# Altium footprint library PcbLib1.PcbLib: 6 footprints
Each footprint in its own frame and in the unit in brackets; x right, y up, seen from the top. Pads: shape width x height; smd on the part's side, far side on the other; paste and mask are expansions set on the pad; w line width, h text height; cw(c..) or ccw(c..) is an arc to the next point about the centre after c.
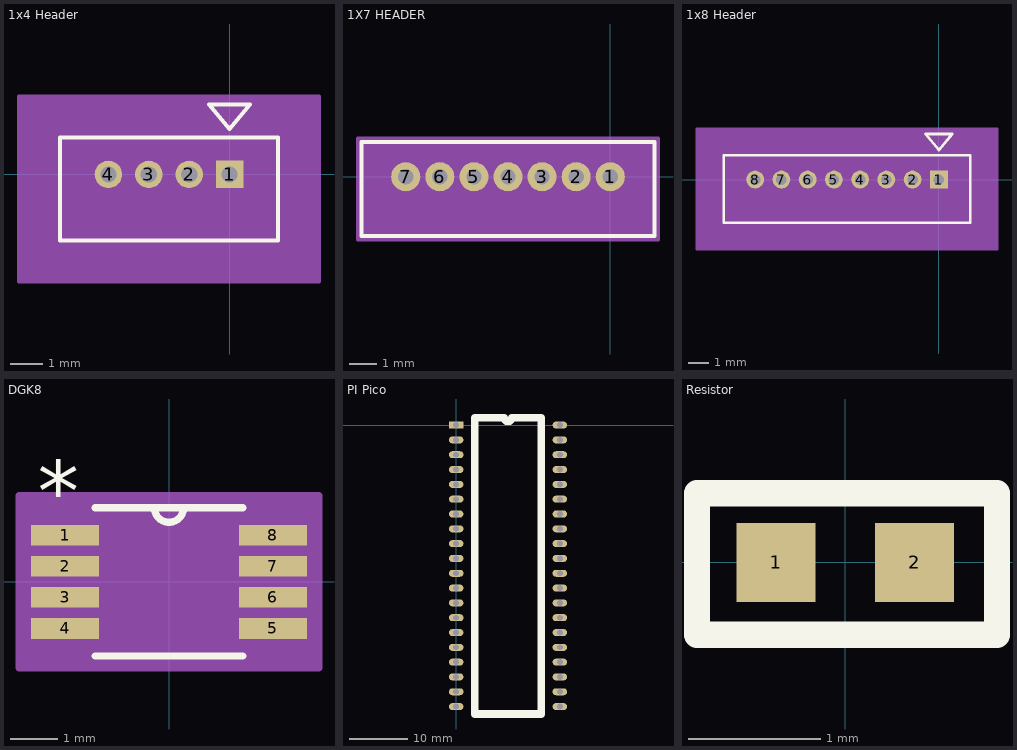
[diagram p0: the footprints below, top view; thin cyan lines are the x and y axes]

## 1x4 Header [mm]
pads (4):
  rect 0.85x0.85 / inner round 1.524 / far side rect 0.85x0.85 hole 0.5 paste-2539.97 mask+0.076: 1(0,0)
  round 0.85 / inner round 1.524 / far side round 0.85 hole 0.5 paste-2539.97 mask+0.076: 2(-1.25,0) 3(-2.5,0) 4(-3.75,0)
Top Overlay:
  lines w0.127: -5.25,-2.05 1.5,-2.05 1.5,1.15 -5.25,1.15 -5.25,-2.05 ; -0.635,2.166 0,1.404 0.635,2.166 -0.635,2.166
Mechanical 3:
  text "MAXIMUM_PACKAGE_HEIGHT:_4.2_MM" at -5.25,-9.01 h1.27
  text "NOTE:" at -5.25,-6.47 h1.27
Mechanical 10:
  text "MAXIMUM_PACKAGE_HEIGHT:_4.2_MM" at -5.25,-9.01 h1.27
  text "NOTE:" at -5.25,-6.47 h1.27
Mechanical 13:
  lines w0.127: -5.25,-2.05 -5.25,1.15 1.5,1.15 1.5,-2.05 -5.25,-2.05 ; -0.635,2.166 0,1.404 0.635,2.166 -0.635,2.166
Mechanical 15:
  region: 2.77,2.42 -6.52,2.42 -6.52,-3.32 2.77,-3.32
  lines w0.127: -6.52,-3.32 2.77,-3.32 2.77,2.42 -6.52,2.42 -6.52,-3.32
3D body "530470410.stp": height 4.21, standoff -2.29, extent -5.25,-2.075 1.5,1.125

## 1X7 HEADER [mil]
pads (7):
  round 42 / inner round 60 / far side round 42 hole 22 paste-99999 mask+0: 1(0,0) 2(-49.21,0) 3(-98.43,0) 4(-147.64,0) 5(-196.85,0) 6(-246.06,0) 7(-295.28,0)
Top Overlay:
  lines w6: -359.14,-85.72 63.86,-85.72 63.86,50.28 -359.14,50.28 -359.14,-85.72
Mechanical 13:
  lines w1: -354.14,-80.72 58.86,-80.72 58.86,45.28 -354.14,45.28 -354.14,-80.72
Mechanical 15:
  region: 68.86,55.28 -364.14,55.28 -364.14,-90.72 68.86,-90.72
  lines w6: -364.14,-90.72 -364.14,55.28 68.86,55.28 68.86,-90.72 -364.14,-90.72
3D body "530470710.stp": height 165.63, standoff -90.28, extent -353.35,-80.71 60.04,45.28

## 1x8 Header [mm]
pads (8):
  rect 0.85x0.85 / inner round 1.524 / far side rect 0.85x0.85 hole 0.5 paste-2539.97 mask+0.076: 1(0,0)
  round 0.85 / inner round 1.524 / far side round 0.85 hole 0.5 paste-2539.97 mask+0.076: 2(-1.25,0) 3(-2.5,0) 4(-3.75,0) 5(-5,0) 6(-6.25,0) 7(-7.5,0) 8(-8.75,0)
Top Overlay:
  lines w0.127: -10.25,-2.05 -10.25,1.15 1.5,1.15 1.5,-2.05 -10.25,-2.05 ; -0.635,2.166 0.635,2.166 0,1.404 -0.635,2.166
Mechanical 13:
  lines w0.127: -10.25,-2.05 1.5,-2.05 1.5,1.15 -10.25,1.15 -10.25,-2.05 ; -0.635,2.166 0.635,2.166 0,1.404 -0.635,2.166
Mechanical 15:
  region: 2.77,2.42 -11.52,2.42 -11.52,-3.32 2.77,-3.32
  lines w0.127: -11.52,-3.32 -11.52,2.42 2.77,2.42 2.77,-3.32 -11.52,-3.32
3D body "530470810.stp": height 4.21, standoff -2.29, extent -10.3,-2.025 1.45,1.175

## DGK8 [mil]
pads (8):
  rect 56x17 smd paste-28 mask-28: 1(-85.5,38.39) 2(-85.5,12.8) 3(-85.5,-12.8) 4(-85.5,-38.39) 5(85.5,-38.39) 6(85.5,-12.8) 7(85.5,12.8) 8(85.5,38.39)
Top Overlay:
  lines w6: -61,-61 61,-61 ; -61,61 61,61 ; -12,61 ccw(c0,61) 12,61
  text "*" at -108,50.39 h50
Mechanical 13:
  lines w0: -12,61 ccw(c0,61) 12,61
  lines w1: -99.5,-45.89 -61,-45.89 -61,-30.89 -99.5,-30.89 -99.5,-45.89 ; -99.5,-20.3 -61,-20.3 -61,-5.3 -99.5,-5.3 -99.5,-20.3 ; -99.5,5.3 -61,5.3 -61,20.3 -99.5,20.3 -99.5,5.3 ; -99.5,30.89 -61,30.89 -61,45.89 -99.5,45.89 -99.5,30.89 ; -61,-61 -61,61 61,61 61,-61 -61,-61 ; 61,-45.89 99.5,-45.89 99.5,-30.89 61,-30.89 61,-45.89 ; 61,-20.3 99.5,-20.3 99.5,-5.3 61,-5.3 61,-20.3 ; 61,5.3 99.5,5.3 99.5,20.3 61,20.3 61,5.3 ; 61,30.89 99.5,30.89 99.5,45.89 61,45.89 61,30.89
  text "*" at -108,50.39 h50
Mechanical 15:
  region: 123.5,-71 -123.5,-71 -123.5,71 123.5,71
  lines w6: -123.5,-71 123.5,-71 123.5,71 -123.5,71 -123.5,-71
3D body "DGK8.step": height 43.11, standoff 0, extent -99.49,-60.98 99.49,60.98

## PI Pico [mm]
pads (40):
  rect 2.5x1.2 hole 1: 1(0,0)
  oval 2.5x1.2 hole 1: 2(0,-2.54) 3(0,-5.08) 4(0,-7.62) 5(0,-10.16) 6(0,-12.7) 7(0,-15.24) 8(0,-17.78) 9(0,-20.32) 10(0,-22.86) 11(0,-25.4) 12(0,-27.94) 13(0,-30.48) 14(0,-33.02) 15(0,-35.56) 16(0,-38.1) 17(0,-40.64) 18(0,-43.18) 19(0,-45.72) 20(0,-48.26) 21(17.78,-48.26) 22(17.78,-45.72) 23(17.78,-43.18) 24(17.78,-40.64) 25(17.78,-38.1) 26(17.78,-35.56) 27(17.78,-33.02) 28(17.78,-30.48) 29(17.78,-27.94) 30(17.78,-25.4) 31(17.78,-22.86) 32(17.78,-20.32) 33(17.78,-17.78) 34(17.78,-15.24) 35(17.78,-12.7) 36(17.78,-10.16) 37(17.78,-7.62) 38(17.78,-5.08) 39(17.78,-2.54) 40(17.78,0)
Top Overlay:
  lines w1.3: 3.185,-49.53 3.185,1.27 8.255,1.27 ccw(c8.89,1.27) 9.525,1.27 14.595,1.27 14.595,-49.53 3.185,-49.53

## Resistor [mm]
pads (2):
  rect 0.6x0.6 smd: 1(-0.525,0) 2(0.525,0)
Top Overlay:
  lines w0.2: -1.125,-0.55 1.15,-0.55 1.15,0.525 -1.125,0.525 -1.125,-0.55
3D body "RES_CRCW_0402.step": height 0.56, standoff 0, extent -0.521,-0.2 0.521,0.206